# Altium integrated library FL2500038.IntLib: 1 symbol
Pins are listed as number, name and electrical type; pins without a type are passive.

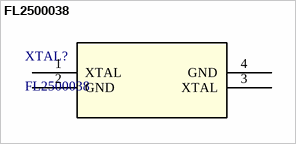
[diagram p0: symbol FL2500038]

## FL2500038
designator XTAL?
No Description Available; Manufacturer_Name: Diodes Inc; Type: Crystals; Copyright: Copyright (C) 2026 Ultra Librarian. All rights reserved.; Manufacturer_Part_Number: FL2500038; RefDes: RefDes
footprint SON4_NKS3_3p2x2p5_CERAMICSMD_DIO
pins: 1 XTAL, 2 GND (power), 3 XTAL, 4 GND (power)